# Altium footprint library CONN_TBLOCK_5P0_A.PcbLib: 45 footprints (part 3 of 3)
Each footprint in its own frame and in the unit in brackets; x right, y up, seen from the top. Pads: shape width x height; smd on the part's side, far side on the other; paste and mask are expansions set on the pad; w line width, h text height; cw(c..) or ccw(c..) is an arc to the next point about the centre after c.
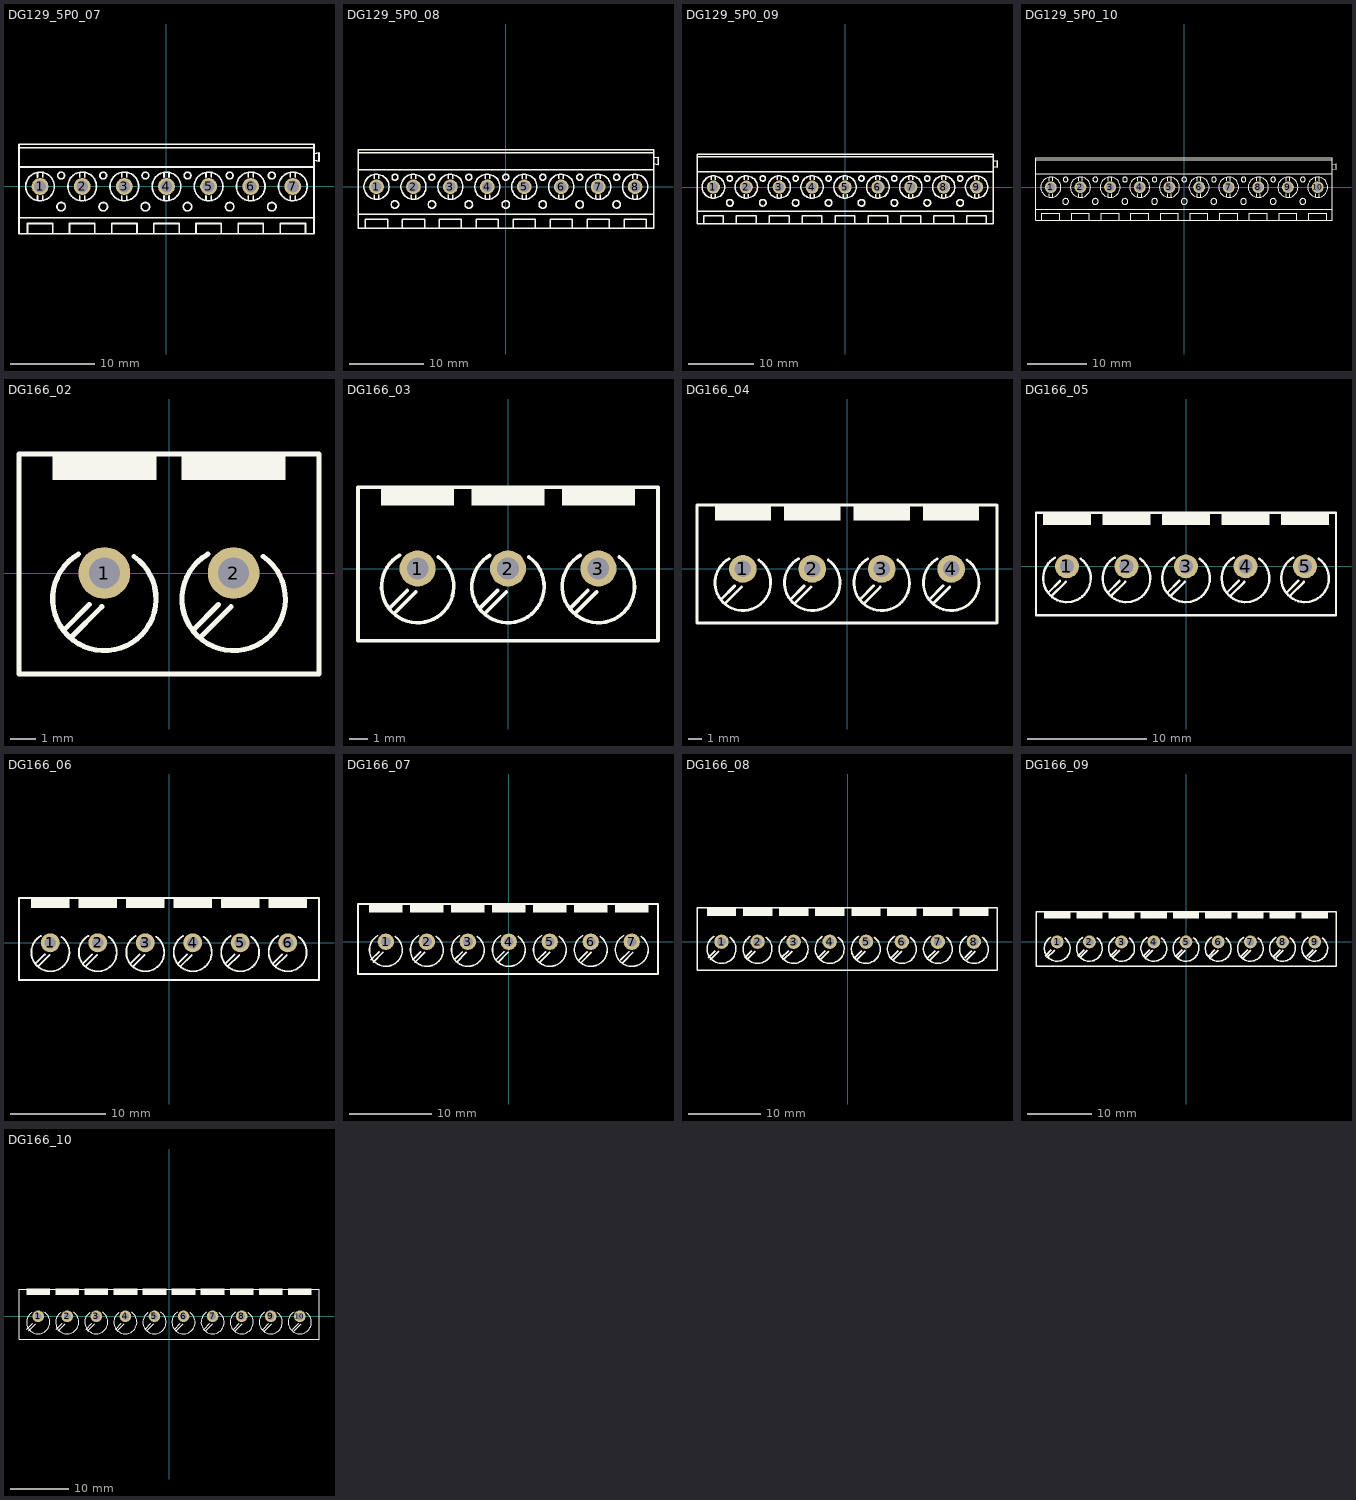
[diagram p2: the footprints below, top view; thin cyan lines are the x and y axes]

## DG129_5P0_07 [mm] "Terminal Block Screw, Pitch 5mm, H20mm"
height 20
pads (7):
  round 2 / inner round 2 / far side oval 2.4x3 hole 1.4: 1(-15,0) 2(-10,0) 3(-5,0) 4(0,0) 5(5,0) 6(10,0) 7(15,0)
Top Overlay:
  circle w0.2: c12.5,-2.4 r0.5
  circle w0.2: c12.5,1.3 r0.4
  circle w0.2: c15,0 r1.7
  circle w0.2: c7.5,-2.4 r0.5
  circle w0.2: c7.5,1.3 r0.4
  circle w0.2: c10,0 r1.7
  circle w0.2: c2.5,-2.4 r0.5
  circle w0.2: c2.5,1.3 r0.4
  circle w0.2: c5,0 r1.7
  circle w0.2: c-2.5,-2.4 r0.5
  circle w0.2: c-2.5,1.3 r0.4
  circle w0.2: c0,0 r1.7
  circle w0.2: c-7.5,-2.4 r0.5
  circle w0.2: c-7.5,1.3 r0.4
  circle w0.2: c-5,0 r1.7
  circle w0.2: c-15,0 r1.7
  circle w0.2: c-10,0 r1.7
  circle w0.2: c-12.5,1.3 r0.4
  circle w0.2: c-12.5,-2.4 r0.5
  lines w0.2: -17.5,-3.7 17.5,-3.7 ; -17.5,2.3 17.5,2.3 ; -17.5,4.6 17.5,4.6 ; -16.5,-5.6 -16.5,-4.4 -13.5,-4.4 -13.5,-5.6 ; -15.3,-1.6 -15.3,-1.1 ; -15.3,1.1 -15.3,1.6 ; -14.7,-1.6 -14.7,-1.1 ; -14.7,1.1 -14.7,1.6 ; -11.5,-5.6 -11.5,-4.4 -8.5,-4.4 -8.5,-5.6 ; -10.3,-1.6 -10.3,-1.1 ; -10.3,1.1 -10.3,1.6 ; -9.7,-1.6 -9.7,-1.1 ; -9.7,1.1 -9.7,1.6 ; -6.5,-5.6 -6.5,-4.4 -3.5,-4.4 -3.5,-5.6 ; -5.3,-1.6 -5.3,-1.1 ; -5.3,1.1 -5.3,1.6 ; -4.7,-1.6 -4.7,-1.1 ; -4.7,1.1 -4.7,1.6 ; -1.5,-5.6 -1.5,-4.4 1.5,-4.4 1.5,-5.6 ; -0.3,-1.6 -0.3,-1.1 ; -0.3,1.1 -0.3,1.6 ; 0.3,-1.6 0.3,-1.1 ; 0.3,1.1 0.3,1.6 ; 3.5,-5.6 3.5,-4.4 6.5,-4.4 6.5,-5.6 ; 4.7,-1.6 4.7,-1.1 ; 4.7,1.1 4.7,1.6 ; 5.3,-1.6 5.3,-1.1 ; 5.3,1.1 5.3,1.6 ; 8.5,-5.6 8.5,-4.4 11.5,-4.4 11.5,-5.6 ; 9.7,-1.6 9.7,-1.1 ; 9.7,1.1 9.7,1.6 ; 10.3,-1.6 10.3,-1.1 ; 10.3,1.1 10.3,1.6 ; 13.5,-5.6 13.5,-4.4 16.5,-4.4 16.5,-5.6 ; 14.7,-1.6 14.7,-1.1 ; 14.7,1.1 14.7,1.6 ; 15.3,-1.6 15.3,-1.1 ; 15.3,1.1 15.3,1.6 ; 17.5,-5.6 17.5,5 ; 17.5,3.1 18.1,3 18.1,4 17.5,3.9 ; 17.5,-5.6 -17.5,-5.6 -17.5,5 17.5,5
3D body "DG129-5.0-07P-14.stp": height 19.5, standoff -3.95, extent -17.5,-5.6 18.1,4.9

## DG129_5P0_08 [mm] "Terminal Block Screw, Pitch 5mm, H20mm"
height 20
pads (8):
  round 2 / inner round 2 / far side oval 2.4x3 hole 1.4: 1(-17.5,0) 2(-12.5,0) 3(-7.5,0) 4(-2.5,0) 5(2.5,0) 6(7.5,0) 7(12.5,0) 8(17.5,0)
Top Overlay:
  circle w0.2: c15,-2.4 r0.5
  circle w0.2: c15,1.3 r0.4
  circle w0.2: c17.5,0 r1.7
  circle w0.2: c10,-2.4 r0.5
  circle w0.2: c10,1.3 r0.4
  circle w0.2: c12.5,0 r1.7
  circle w0.2: c5,-2.4 r0.5
  circle w0.2: c5,1.3 r0.4
  circle w0.2: c7.5,0 r1.7
  circle w0.2: c0,-2.4 r0.5
  circle w0.2: c0,1.3 r0.4
  circle w0.2: c2.5,0 r1.7
  circle w0.2: c-5,-2.4 r0.5
  circle w0.2: c-5,1.3 r0.4
  circle w0.2: c-2.5,0 r1.7
  circle w0.2: c-10,-2.4 r0.5
  circle w0.2: c-10,1.3 r0.4
  circle w0.2: c-7.5,0 r1.7
  circle w0.2: c-17.5,0 r1.7
  circle w0.2: c-12.5,0 r1.7
  circle w0.2: c-15,1.3 r0.4
  circle w0.2: c-15,-2.4 r0.5
  lines w0.2: -20,-3.7 20,-3.7 ; -20,2.3 20,2.3 ; -20,4.6 20,4.6 ; -19,-5.6 -19,-4.4 -16,-4.4 -16,-5.6 ; -17.8,-1.6 -17.8,-1.1 ; -17.8,1.1 -17.8,1.6 ; -17.2,-1.6 -17.2,-1.1 ; -17.2,1.1 -17.2,1.6 ; -14,-5.6 -14,-4.4 -11,-4.4 -11,-5.6 ; -12.8,-1.6 -12.8,-1.1 ; -12.8,1.1 -12.8,1.6 ; -12.2,-1.6 -12.2,-1.1 ; -12.2,1.1 -12.2,1.6 ; -9,-5.6 -9,-4.4 -6,-4.4 -6,-5.6 ; -7.8,-1.6 -7.8,-1.1 ; -7.8,1.1 -7.8,1.6 ; -7.2,-1.6 -7.2,-1.1 ; -7.2,1.1 -7.2,1.6 ; -4,-5.6 -4,-4.4 -1,-4.4 -1,-5.6 ; -2.8,-1.6 -2.8,-1.1 ; -2.8,1.1 -2.8,1.6 ; -2.2,-1.6 -2.2,-1.1 ; -2.2,1.1 -2.2,1.6 ; 1,-5.6 1,-4.4 4,-4.4 4,-5.6 ; 2.2,-1.6 2.2,-1.1 ; 2.2,1.1 2.2,1.6 ; 2.8,-1.6 2.8,-1.1 ; 2.8,1.1 2.8,1.6 ; 6,-5.6 6,-4.4 9,-4.4 9,-5.6 ; 7.2,-1.6 7.2,-1.1 ; 7.2,1.1 7.2,1.6 ; 7.8,-1.6 7.8,-1.1 ; 7.8,1.1 7.8,1.6 ; 11,-5.6 11,-4.4 14,-4.4 14,-5.6 ; 12.2,-1.6 12.2,-1.1 ; 12.2,1.1 12.2,1.6 ; 12.8,-1.6 12.8,-1.1 ; 12.8,1.1 12.8,1.6 ; 16,-5.6 16,-4.4 19,-4.4 19,-5.6 ; 17.2,-1.6 17.2,-1.1 ; 17.2,1.1 17.2,1.6 ; 17.8,-1.6 17.8,-1.1 ; 17.8,1.1 17.8,1.6 ; 20,3.1 20.6,3 20.6,4 20,3.9 ; -20,-5.6 20,-5.6 20,5 -20,5 -20,-5.6
3D body "DG129-5.0-08P-14.stp": height 19.5, standoff -3.95, extent -20,-5.6 20.6,4.9

## DG129_5P0_09 [mm] "Terminal Block Screw, Pitch 5mm, H20mm"
height 20
pads (9):
  round 2 / inner round 2 / far side oval 2.4x3 hole 1.4: 1(-20,0) 2(-15,0) 3(-10,0) 4(-5,0) 5(0,0) 6(5,0) 7(10,0) 8(15,0) 9(20,0)
Top Overlay:
  circle w0.2: c-12.5,-2.4 r0.5
  circle w0.2: c-12.5,1.3 r0.4
  circle w0.2: c-10,0 r1.7
  circle w0.2: c-5,0 r1.7
  circle w0.2: c-7.5,1.3 r0.4
  circle w0.2: c-7.5,-2.4 r0.5
  circle w0.2: c0,0 r1.7
  circle w0.2: c-2.5,1.3 r0.4
  circle w0.2: c-2.5,-2.4 r0.5
  circle w0.2: c5,0 r1.7
  circle w0.2: c2.5,1.3 r0.4
  circle w0.2: c2.5,-2.4 r0.5
  circle w0.2: c10,0 r1.7
  circle w0.2: c7.5,1.3 r0.4
  circle w0.2: c7.5,-2.4 r0.5
  circle w0.2: c15,0 r1.7
  circle w0.2: c12.5,1.3 r0.4
  circle w0.2: c12.5,-2.4 r0.5
  circle w0.2: c20,0 r1.7
  circle w0.2: c17.5,1.3 r0.4
  circle w0.2: c17.5,-2.4 r0.5
  circle w0.2: c-17.5,-2.4 r0.5
  circle w0.2: c-17.5,1.3 r0.4
  circle w0.2: c-15,0 r1.7
  circle w0.2: c-20,0 r1.7
  lines w0.2: -22.5,-3.7 22.5,-3.7 ; -22.5,2.3 22.5,2.3 ; -22.5,4.6 22.5,4.6 ; -21.5,-5.6 -21.5,-4.4 -18.5,-4.4 -18.5,-5.6 ; -20.3,-1.6 -20.3,-1.1 ; -20.3,1.1 -20.3,1.6 ; -19.7,-1.6 -19.7,-1.1 ; -19.7,1.1 -19.7,1.6 ; -16.5,-5.6 -16.5,-4.4 -13.5,-4.4 -13.5,-5.6 ; -15.3,-1.6 -15.3,-1.1 ; -15.3,1.1 -15.3,1.6 ; -14.7,-1.6 -14.7,-1.1 ; -14.7,1.1 -14.7,1.6 ; -11.5,-5.6 -11.5,-4.4 -8.5,-4.4 -8.5,-5.6 ; -10.3,-1.6 -10.3,-1.1 ; -10.3,1.1 -10.3,1.6 ; -9.7,-1.6 -9.7,-1.1 ; -9.7,1.1 -9.7,1.6 ; -6.5,-5.6 -6.5,-4.4 -3.5,-4.4 -3.5,-5.6 ; -5.3,-1.6 -5.3,-1.1 ; -5.3,1.1 -5.3,1.6 ; -4.7,-1.6 -4.7,-1.1 ; -4.7,1.1 -4.7,1.6 ; -1.5,-5.6 -1.5,-4.4 1.5,-4.4 1.5,-5.6 ; -0.3,-1.6 -0.3,-1.1 ; -0.3,1.1 -0.3,1.6 ; 0.3,-1.6 0.3,-1.1 ; 0.3,1.1 0.3,1.6 ; 3.5,-5.6 3.5,-4.4 6.5,-4.4 6.5,-5.6 ; 4.7,-1.6 4.7,-1.1 ; 4.7,1.1 4.7,1.6 ; 5.3,-1.6 5.3,-1.1 ; 5.3,1.1 5.3,1.6 ; 8.5,-5.6 8.5,-4.4 11.5,-4.4 11.5,-5.6 ; 9.7,-1.6 9.7,-1.1 ; 9.7,1.1 9.7,1.6 ; 10.3,-1.6 10.3,-1.1 ; 10.3,1.1 10.3,1.6 ; 13.5,-5.6 13.5,-4.4 16.5,-4.4 16.5,-5.6 ; 14.7,-1.6 14.7,-1.1 ; 14.7,1.1 14.7,1.6 ; 15.3,-1.6 15.3,-1.1 ; 15.3,1.1 15.3,1.6 ; 18.5,-5.6 18.5,-4.4 21.5,-4.4 21.5,-5.6 ; 19.7,-1.6 19.7,-1.1 ; 19.7,1.1 19.7,1.6 ; 20.3,-1.6 20.3,-1.1 ; 20.3,1.1 20.3,1.6 ; 22.5,-5.6 22.5,5 ; 22.5,3.1 23.1,3 23.1,4 22.5,3.9 ; 22.5,-5.6 -22.5,-5.6 -22.5,5 22.5,5
3D body "DG129-5.0-09P-14.stp": height 19.5, standoff -3.95, extent -22.5,-5.6 23.1,4.9

## DG129_5P0_10 [mm] "Terminal Block Screw, Pitch 5mm, H20mm"
height 20
pads (10):
  round 2 / inner round 2 / far side oval 2.4x3 hole 1.4: 1(-22.5,0) 2(-17.5,0) 3(-12.5,0) 4(-7.5,0) 5(-2.5,0) 6(2.5,0) 7(7.5,0) 8(12.5,0) 9(17.5,0) 10(22.5,0)
Top Overlay:
  circle w0.2: c22.5,0 r1.7
  circle w0.2: c20,1.3 r0.4
  circle w0.2: c20,-2.4 r0.5
  circle w0.2: c-15,-2.4 r0.5
  circle w0.2: c-15,1.3 r0.4
  circle w0.2: c-12.5,0 r1.7
  circle w0.2: c-7.5,0 r1.7
  circle w0.2: c-10,1.3 r0.4
  circle w0.2: c-10,-2.4 r0.5
  circle w0.2: c-2.5,0 r1.7
  circle w0.2: c-5,1.3 r0.4
  circle w0.2: c-5,-2.4 r0.5
  circle w0.2: c2.5,0 r1.7
  circle w0.2: c0,1.3 r0.4
  circle w0.2: c0,-2.4 r0.5
  circle w0.2: c7.5,0 r1.7
  circle w0.2: c5,1.3 r0.4
  circle w0.2: c5,-2.4 r0.5
  circle w0.2: c12.5,0 r1.7
  circle w0.2: c10,1.3 r0.4
  circle w0.2: c10,-2.4 r0.5
  circle w0.2: c17.5,0 r1.7
  circle w0.2: c15,1.3 r0.4
  circle w0.2: c15,-2.4 r0.5
  circle w0.2: c-20,-2.4 r0.5
  circle w0.2: c-20,1.3 r0.4
  circle w0.2: c-17.5,0 r1.7
  circle w0.2: c-22.5,0 r1.7
  lines w0.2: -25,-3.7 25,-3.7 ; -25,2.3 25,2.3 ; -25,4.6 25,4.6 ; -24,-5.6 -24,-4.4 -21,-4.4 -21,-5.6 ; -22.8,-1.6 -22.8,-1.1 ; -22.8,1.1 -22.8,1.6 ; -22.2,-1.6 -22.2,-1.1 ; -22.2,1.1 -22.2,1.6 ; -19,-5.6 -19,-4.4 -16,-4.4 -16,-5.6 ; -17.8,-1.6 -17.8,-1.1 ; -17.8,1.1 -17.8,1.6 ; -17.2,-1.6 -17.2,-1.1 ; -17.2,1.1 -17.2,1.6 ; -14,-5.6 -14,-4.4 -11,-4.4 -11,-5.6 ; -12.8,-1.6 -12.8,-1.1 ; -12.8,1.1 -12.8,1.6 ; -12.2,-1.6 -12.2,-1.1 ; -12.2,1.1 -12.2,1.6 ; -9,-5.6 -9,-4.4 -6,-4.4 -6,-5.6 ; -7.8,-1.6 -7.8,-1.1 ; -7.8,1.1 -7.8,1.6 ; -7.2,-1.6 -7.2,-1.1 ; -7.2,1.1 -7.2,1.6 ; -4,-5.6 -4,-4.4 -1,-4.4 -1,-5.6 ; -2.8,-1.6 -2.8,-1.1 ; -2.8,1.1 -2.8,1.6 ; -2.2,-1.6 -2.2,-1.1 ; -2.2,1.1 -2.2,1.6 ; 1,-5.6 1,-4.4 4,-4.4 4,-5.6 ; 2.2,-1.6 2.2,-1.1 ; 2.2,1.1 2.2,1.6 ; 2.8,-1.6 2.8,-1.1 ; 2.8,1.1 2.8,1.6 ; 6,-5.6 6,-4.4 9,-4.4 9,-5.6 ; 7.2,-1.6 7.2,-1.1 ; 7.2,1.1 7.2,1.6 ; 7.8,-1.6 7.8,-1.1 ; 7.8,1.1 7.8,1.6 ; 11,-5.6 11,-4.4 14,-4.4 14,-5.6 ; 12.2,-1.6 12.2,-1.1 ; 12.2,1.1 12.2,1.6 ; 12.8,-1.6 12.8,-1.1 ; 12.8,1.1 12.8,1.6 ; 16,-5.6 16,-4.4 19,-4.4 19,-5.6 ; 17.2,-1.6 17.2,-1.1 ; 17.2,1.1 17.2,1.6 ; 17.8,-1.6 17.8,-1.1 ; 17.8,1.1 17.8,1.6 ; 21,-5.6 21,-4.4 24,-4.4 24,-5.6 ; 22.2,-1.6 22.2,-1.1 ; 22.2,1.1 22.2,1.6 ; 22.8,-1.6 22.8,-1.1 ; 22.8,1.1 22.8,1.6 ; 25,3.1 25.6,3 25.6,4 25,3.9 ; -25,-5.6 -25,5 25,5 25,-5.6 -25,-5.6
3D body "DG129-5.0-10P-14.stp": height 19.5, standoff -3.95, extent -25,-5.6 25.6,4.9

## DG166_02 [mm] "Terminal Screw, Pitch 5mm"
height 15
pads (2):
  round 2 / inner round 2 / far side rect 2.4x3 hole 1.2: 1(-2.5,0)
  round 2 / inner round 2 / far side oval 2.4x3 hole 1.2: 2(2.5,0)
Top Overlay:
  region: 0.5,4.6 0.5,3.6 4.5,3.6 4.5,4.6
  region: -4.5,4.6 -4.5,3.6 -0.5,3.6 -0.5,4.6
  lines w0.2: -4.071,-2.209 -3.081,-1.219 ; -3.789,-2.491 -2.599,-1.301 ; -3.5,0.732 ccw(c-2.5,-1) -1.353,0.638 ; 0.929,-2.209 1.919,-1.219 ; 1.211,-2.491 2.401,-1.301 ; 1.5,0.732 ccw(c2.5,-1) 3.647,0.638 ; -5.8,-3.9 5.8,-3.9 5.8,4.6 -5.8,4.6 -5.8,-3.9
3D body "DG166-5.0-02P-12-00AH.STEP": height 12.8, standoff -4, extent -5.75,-3.828 5.75,4.572

## DG166_03 [mm] "Terminal Screw, Pitch 5mm"
height 15
pads (3):
  round 2 / inner round 2 / far side rect 2.4x3 hole 1.2: 1(-5,0)
  round 2 / inner round 2 / far side oval 2.4x3 hole 1.2: 2(0,0) 3(5,0)
Top Overlay:
  region: -7,4.5 -7,3.5 -3,3.5 -3,4.5
  region: -2,4.5 -2,3.5 2,3.5 2,4.5
  region: 3,4.5 3,3.5 7,3.5 7,4.5
  lines w0.2: -6.571,-2.209 -5.581,-1.219 ; -6.289,-2.491 -5.099,-1.301 ; -6,0.732 ccw(c-5,-1) -3.853,0.638 ; -1.571,-2.209 -0.581,-1.219 ; -1.289,-2.491 -0.099,-1.301 ; -1,0.732 ccw(c0,-1) 1.147,0.638 ; 3.429,-2.209 4.419,-1.219 ; 3.711,-2.491 4.901,-1.301 ; 4,0.732 ccw(c5,-1) 6.147,0.638 ; -8.3,-4 8.3,-4 8.3,4.5 -8.3,4.5 -8.3,-4
3D body "DG166-5.0-03P-12-00AH.STEP": height 12.8, standoff -4, extent -8.25,-3.955 8.25,4.445

## DG166_04 [mm] "Terminal Screw, Pitch 5mm"
height 15
pads (4):
  round 2 / inner round 2 / far side rect 2.4x3 hole 1.2: 1(-7.5,0)
  round 2 / inner round 2 / far side oval 2.4x3 hole 1.2: 2(-2.5,0) 3(2.5,0) 4(7.5,0)
Top Overlay:
  region: -9.5,4.5 -9.5,3.5 -5.5,3.5 -5.5,4.5
  region: -4.5,4.5 -4.5,3.5 -0.5,3.5 -0.5,4.5
  region: 0.5,4.5 0.5,3.5 4.5,3.5 4.5,4.5
  region: 5.5,4.5 5.5,3.5 9.5,3.5 9.5,4.5
  lines w0.2: -9.071,-2.209 -8.081,-1.219 ; -8.789,-2.491 -7.599,-1.301 ; -8.5,0.732 ccw(c-7.5,-1) -6.353,0.638 ; -4.071,-2.209 -3.081,-1.219 ; -3.789,-2.491 -2.599,-1.301 ; -3.5,0.732 ccw(c-2.5,-1) -1.353,0.638 ; 0.929,-2.209 1.919,-1.219 ; 1.211,-2.491 2.401,-1.301 ; 1.5,0.732 ccw(c2.5,-1) 3.647,0.638 ; 5.929,-2.209 6.919,-1.219 ; 6.211,-2.491 7.401,-1.301 ; 6.5,0.732 ccw(c7.5,-1) 8.647,0.638 ; -10.8,-3.9 10.8,-3.9 10.8,4.6 -10.8,4.6 -10.8,-3.9
3D body "DG166-5.0-04P-12-00AH.STEP": height 12.8, standoff -4, extent -10.75,-3.828 10.75,4.572

## DG166_05 [mm] "Terminal Screw, Pitch 5mm"
height 15
pads (5):
  round 2 / inner round 2 / far side rect 2.4x3 hole 1.2: 1(-10,0)
  round 2 / inner round 2 / far side oval 2.4x3 hole 1.2: 2(-5,0) 3(0,0) 4(5,0) 5(10,0)
Top Overlay:
  region: -12,4.5 -12,3.5 -8,3.5 -8,4.5
  region: -7,4.5 -7,3.5 -3,3.5 -3,4.5
  region: -2,4.5 -2,3.5 2,3.5 2,4.5
  region: 3,4.5 3,3.5 7,3.5 7,4.5
  region: 8,4.5 8,3.5 12,3.5 12,4.5
  lines w0.2: -11.571,-2.209 -10.581,-1.219 ; -11.289,-2.491 -10.099,-1.301 ; -11,0.732 ccw(c-10,-1) -8.853,0.638 ; -6.571,-2.209 -5.581,-1.219 ; -6.289,-2.491 -5.099,-1.301 ; -6,0.732 ccw(c-5,-1) -3.853,0.638 ; -1.571,-2.209 -0.581,-1.219 ; -1.289,-2.491 -0.099,-1.301 ; -1,0.732 ccw(c0,-1) 1.147,0.638 ; 3.429,-2.209 4.419,-1.219 ; 3.711,-2.491 4.901,-1.301 ; 4,0.732 ccw(c5,-1) 6.147,0.638 ; 8.429,-2.209 9.419,-1.219 ; 8.711,-2.491 9.901,-1.301 ; 9,0.732 ccw(c10,-1) 11.147,0.638 ; -12.6,-4.1 -12.6,4.5 12.6,4.5 12.6,-4.1 -12.6,-4.1
3D body "DG167-5.0-05P-12-00AH.STEP": height 14, standoff -4.5, extent -12.5,-4.037 12.5,4.463

## DG166_06 [mm] "Terminal Screw, Pitch 5mm"
height 15
pads (6):
  round 2 / inner round 2 / far side rect 2.4x3 hole 1.2: 1(-12.5,0)
  round 2 / inner round 2 / far side oval 2.4x3 hole 1.2: 2(-7.5,0) 3(-2.5,0) 4(2.5,0) 5(7.5,0) 6(12.5,0)
Top Overlay:
  region: 10.5,4.7 10.5,3.7 14.5,3.7 14.5,4.7
  region: 5.5,4.7 5.5,3.7 9.5,3.7 9.5,4.7
  region: 0.5,4.7 0.5,3.7 4.5,3.7 4.5,4.7
  region: -4.5,4.7 -4.5,3.7 -0.5,3.7 -0.5,4.7
  region: -9.5,4.7 -9.5,3.7 -5.5,3.7 -5.5,4.7
  region: -14.5,4.7 -14.5,3.7 -10.5,3.7 -10.5,4.7
  lines w0.2: -14.071,-2.209 -13.081,-1.219 ; -13.789,-2.491 -12.599,-1.301 ; -13.5,0.732 ccw(c-12.5,-1) -11.353,0.638 ; -9.071,-2.209 -8.081,-1.219 ; -8.789,-2.491 -7.599,-1.301 ; -8.5,0.732 ccw(c-7.5,-1) -6.353,0.638 ; -4.071,-2.209 -3.081,-1.219 ; -3.789,-2.491 -2.599,-1.301 ; -3.5,0.732 ccw(c-2.5,-1) -1.353,0.638 ; 0.929,-2.209 1.919,-1.219 ; 1.211,-2.491 2.401,-1.301 ; 1.5,0.732 ccw(c2.5,-1) 3.647,0.638 ; 5.929,-2.209 6.919,-1.219 ; 6.211,-2.491 7.401,-1.301 ; 6.5,0.732 ccw(c7.5,-1) 8.647,0.638 ; 10.929,-2.209 11.919,-1.219 ; 11.211,-2.491 12.401,-1.301 ; 11.5,0.732 ccw(c12.5,-1) 13.647,0.638 ; -15.8,-3.9 -15.8,4.7 15.8,4.7 15.8,-3.9 -15.8,-3.9
3D body "DG166-5.0-06P-12-00AH.STEP": height 12.8, standoff -4, extent -15.725,-3.81 15.775,4.59

## DG166_07 [mm] "Terminal Screw, Pitch 5mm"
height 15
pads (7):
  round 2 / inner round 2 / far side rect 2.4x3 hole 1.2: 1(-15,0)
  round 2 / inner round 2 / far side oval 2.4x3 hole 1.2: 2(-10,0) 3(-5,0) 4(0,0) 5(5,0) 6(10,0) 7(15,0)
Top Overlay:
  region: -17,4.6 -17,3.6 -13,3.6 -13,4.6
  region: -12,4.6 -12,3.6 -8,3.6 -8,4.6
  region: -7,4.6 -7,3.6 -3,3.6 -3,4.6
  region: -2,4.6 -2,3.6 2,3.6 2,4.6
  region: 3,4.6 3,3.6 7,3.6 7,4.6
  region: 8,4.6 8,3.6 12,3.6 12,4.6
  region: 13,4.6 13,3.6 17,3.6 17,4.6
  lines w0.2: -16.811,-2.209 -15.821,-1.219 ; -16.529,-2.491 -15.339,-1.301 ; -16,0.732 ccw(c-15,-1) -13.853,0.638 ; -11.731,-2.209 -10.741,-1.219 ; -11.449,-2.491 -10.259,-1.301 ; -11,0.732 ccw(c-10,-1) -8.853,0.638 ; -6.651,-2.209 -5.661,-1.219 ; -6.369,-2.491 -5.179,-1.301 ; -6,0.732 ccw(c-5,-1) -3.853,0.638 ; -1.571,-2.209 -0.581,-1.219 ; -1.289,-2.491 -0.099,-1.301 ; -1,0.732 ccw(c0,-1) 1.147,0.638 ; 3.509,-2.209 4.499,-1.219 ; 3.791,-2.491 4.981,-1.301 ; 4,0.732 ccw(c5,-1) 6.147,0.638 ; 8.589,-2.209 9.579,-1.219 ; 8.871,-2.491 10.061,-1.301 ; 9,0.732 ccw(c10,-1) 11.147,0.638 ; 13.669,-2.209 14.659,-1.219 ; 13.951,-2.491 15.141,-1.301 ; 14,0.732 ccw(c15,-1) 16.147,0.638 ; -18.4,-3.937 -18.4,4.6 18.2,4.6 18.2,-3.937 -18.4,-3.937
3D body "DG166-5.0-07P-12-00AH.STEP": height 12.8, standoff -4, extent -18.277,-3.81 18.223,4.59

## DG166_08 [mm] "Terminal Screw, Pitch 5mm"
height 15
pads (8):
  round 2 / inner round 2 / far side rect 2.4x3 hole 1.2: 1(-17.5,0)
  round 2 / inner round 2 / far side oval 2.4x3 hole 1.2: 2(-12.5,0) 3(-7.5,0) 4(-2.5,0) 5(2.54,0) 6(7.5,0) 7(12.5,0) 8(17.5,0)
Top Overlay:
  region: -19.5,4.6 -19.5,3.6 -15.5,3.6 -15.5,4.6
  region: -14.5,4.6 -14.5,3.6 -10.5,3.6 -10.5,4.6
  region: -9.5,4.6 -9.5,3.6 -5.5,3.6 -5.5,4.6
  region: -4.5,4.6 -4.5,3.6 -0.5,3.6 -0.5,4.6
  region: 0.54,4.6 0.54,3.6 4.54,3.6 4.54,4.6
  region: 5.5,4.6 5.5,3.6 9.5,3.6 9.5,4.6
  region: 10.5,4.6 10.5,3.6 14.5,3.6 14.5,4.6
  region: 15.5,4.6 15.5,3.6 19.5,3.6 19.5,4.6
  lines w0.2: -19.351,-2.209 -18.361,-1.219 ; -19.069,-2.491 -17.879,-1.301 ; -18.5,0.732 ccw(c-17.5,-1) -16.353,0.638 ; -14.271,-2.209 -13.281,-1.219 ; -13.989,-2.491 -12.799,-1.301 ; -13.5,0.732 ccw(c-12.5,-1) -11.353,0.638 ; -9.191,-2.209 -8.201,-1.219 ; -8.909,-2.491 -7.719,-1.301 ; -8.5,0.732 ccw(c-7.5,-1) -6.353,0.638 ; -4.111,-2.209 -3.121,-1.219 ; -3.829,-2.491 -2.639,-1.301 ; -3.5,0.732 ccw(c-2.5,-1) -1.353,0.638 ; 0.969,-2.209 1.959,-1.219 ; 1.251,-2.491 2.441,-1.301 ; 1.5,0.732 ccw(c2.5,-1) 3.647,0.638 ; 6.049,-2.209 7.039,-1.219 ; 6.331,-2.491 7.521,-1.301 ; 6.5,0.732 ccw(c7.5,-1) 8.647,0.638 ; 11.129,-2.209 12.119,-1.219 ; 11.411,-2.491 12.601,-1.301 ; 11.5,0.732 ccw(c12.5,-1) 13.647,0.638 ; 16.209,-2.209 17.199,-1.219 ; 16.491,-2.491 17.681,-1.301 ; 16.5,0.732 ccw(c17.5,-1) 18.647,0.638 ; -20.9,-3.937 -20.9,4.7 20.7,4.7 20.7,-3.937 -20.9,-3.937
3D body "DG166-5.0-08P-12-00AH.STEP": height 12.8, standoff -4, extent -20.877,-3.81 20.623,4.59

## DG166_09 [mm] "Terminal Screw, Pitch 5mm"
height 15
pads (9):
  round 2 / inner round 2 / far side rect 2.4x3 hole 1.2: 1(-20,0)
  round 2 / inner round 2 / far side oval 2.4x3 hole 1.2: 2(-15,0) 3(-10,0) 4(-5,0) 5(0,0) 6(5,0) 7(10,0) 8(15,0) 9(20,0)
Top Overlay:
  region: -22,4.7 -22,3.7 -18,3.7 -18,4.7
  region: -17,4.7 -17,3.7 -13,3.7 -13,4.7
  region: -12,4.7 -12,3.7 -8,3.7 -8,4.7
  region: -7,4.7 -7,3.7 -3,3.7 -3,4.7
  region: -2,4.7 -2,3.7 2,3.7 2,4.7
  region: 3,4.7 3,3.7 7,3.7 7,4.7
  region: 8,4.7 8,3.7 12,3.7 12,4.7
  region: 13,4.7 13,3.7 17,3.7 17,4.7
  region: 18,4.7 18,3.7 22,3.7 22,4.7
  lines w0.2: -21.891,-2.209 -20.901,-1.219 ; -21.609,-2.491 -20.419,-1.301 ; -21,0.732 ccw(c-20,-1) -18.853,0.638 ; -16.811,-2.209 -15.821,-1.219 ; -16.529,-2.491 -15.339,-1.301 ; -16,0.732 ccw(c-15,-1) -13.853,0.638 ; -11.731,-2.209 -10.741,-1.219 ; -11.449,-2.491 -10.259,-1.301 ; -11,0.732 ccw(c-10,-1) -8.853,0.638 ; -6.651,-2.209 -5.661,-1.219 ; -6.369,-2.491 -5.179,-1.301 ; -6,0.732 ccw(c-5,-1) -3.853,0.638 ; -1.571,-2.209 -0.581,-1.219 ; -1.289,-2.491 -0.099,-1.301 ; -1,0.732 ccw(c0,-1) 1.147,0.638 ; 3.509,-2.209 4.499,-1.219 ; 3.791,-2.491 4.981,-1.301 ; 4,0.732 ccw(c5,-1) 6.147,0.638 ; 8.589,-2.209 9.579,-1.219 ; 8.871,-2.491 10.061,-1.301 ; 9,0.732 ccw(c10,-1) 11.147,0.638 ; 13.669,-2.209 14.659,-1.219 ; 13.951,-2.491 15.141,-1.301 ; 14,0.732 ccw(c15,-1) 16.147,0.638 ; 18.749,-2.209 19.739,-1.219 ; 19,0.732 ccw(c20,-1) 21.147,0.638 ; 19.031,-2.491 20.221,-1.301 ; -23.3,-3.8 -23.3,4.7 23.3,4.7 23.3,-3.8 -23.3,-3.8
3D body "DG166-5.0-09P-12-00AH.STEP": height 12.8, standoff -4, extent -23.259,-3.783 23.241,4.617

## DG166_10 [mm] "Terminal Screw, Pitch 5mm"
height 15
pads (10):
  round 2 / inner round 2 / far side rect 2.4x3 hole 1.2: 1(-22.5,0)
  round 2 / inner round 2 / far side oval 2.4x3 hole 1.2: 2(-17.5,0) 3(-12.5,0) 4(-7.5,0) 5(-2.5,0) 6(2.5,0) 7(7.5,0) 8(12.5,0) 9(17.5,0) 10(22.5,0)
Top Overlay:
  region: 20.5,4.7 20.5,3.7 24.5,3.7 24.5,4.7
  region: -24.5,4.7 -24.5,3.7 -20.5,3.7 -20.5,4.7
  region: -19.5,4.7 -19.5,3.7 -15.5,3.7 -15.5,4.7
  region: -14.5,4.7 -14.5,3.7 -10.5,3.7 -10.5,4.7
  region: -9.5,4.7 -9.5,3.7 -5.5,3.7 -5.5,4.7
  region: -4.5,4.7 -4.5,3.7 -0.5,3.7 -0.5,4.7
  region: 0.5,4.7 0.5,3.7 4.5,3.7 4.5,4.7
  region: 5.5,4.7 5.5,3.7 9.5,3.7 9.5,4.7
  region: 10.5,4.7 10.5,3.7 14.5,3.7 14.5,4.7
  region: 15.5,4.7 15.5,3.7 19.5,3.7 19.5,4.7
  lines w0.2: -24.431,-2.209 -23.441,-1.219 ; -24.149,-2.491 -22.959,-1.301 ; -23.647,0.638 ccw(c-22.5,-1) -21.5,0.732 ; -19.351,-2.209 -18.361,-1.219 ; -19.069,-2.491 -17.879,-1.301 ; -18.647,0.638 ccw(c-17.5,-1) -16.5,0.732 ; -14.271,-2.209 -13.281,-1.219 ; -13.989,-2.491 -12.799,-1.301 ; -13.647,0.638 ccw(c-12.5,-1) -11.5,0.732 ; -9.191,-2.209 -8.201,-1.219 ; -8.909,-2.491 -7.719,-1.301 ; -8.647,0.638 ccw(c-7.5,-1) -6.5,0.732 ; -4.111,-2.209 -3.121,-1.219 ; -3.829,-2.491 -2.639,-1.301 ; -3.647,0.638 ccw(c-2.5,-1) -1.5,0.732 ; 0.969,-2.209 1.959,-1.219 ; 1.251,-2.491 2.441,-1.301 ; 1.5,0.732 ccw(c2.5,-1) 3.647,0.638 ; 6.049,-2.209 7.039,-1.219 ; 6.331,-2.491 7.521,-1.301 ; 6.5,0.732 ccw(c7.5,-1) 8.647,0.638 ; 11.129,-2.209 12.119,-1.219 ; 11.411,-2.491 12.601,-1.301 ; 11.5,0.732 ccw(c12.5,-1) 13.647,0.638 ; 16.209,-2.209 17.199,-1.219 ; 16.491,-2.491 17.681,-1.301 ; 16.5,0.732 ccw(c17.5,-1) 18.647,0.638 ; 21.289,-2.209 22.279,-1.219 ; 21.5,0.732 ccw(c22.5,-1) 23.647,0.638 ; 21.571,-2.491 22.761,-1.301 ; -25.8,-3.9 25.8,-3.9 25.8,4.7 -25.8,4.7 -25.8,-3.9
3D body "DG166-5.0-10P-12-00AH.STEP": height 12.8, standoff -4, extent -25.75,-3.81 25.75,4.59